# Altium integrated library ALTIUM-SMSI_SMT_STEEL_SPACER_M3_THREAD_INTERNAL-rev19a.IntLib: 149 symbols (part 1 of 2)
Pins are listed as number, name and electrical type; pins without a type are passive.

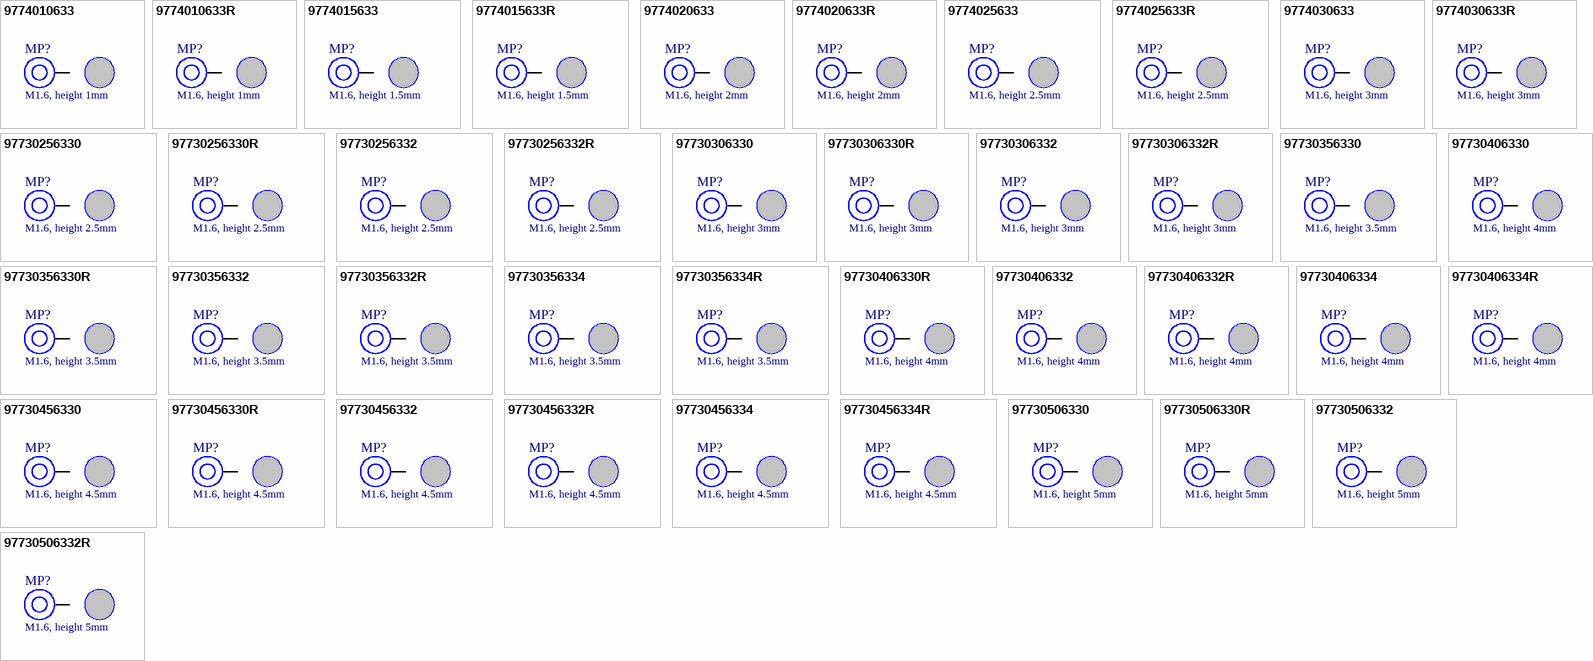
[diagram p0: symbols 9774010633 to 97730506332R]

## 9774010633
designator MP?, comment M1.6, height 1mm
SMT Steel Spacer with internal Thread M1.6 WA-SMSI, height 1mm; Part Number: 9774010633; Tightening Torque: 0.1 Nm; Solder Cream Thickness: 120 um; Surface: Tin; ComponentLink1Description: Manufacturer; ComponentLink1URL: http://www.we-online.de; ComponentLink2Description: Datasheet; ComponentLink2URL: https://katalog.we-online.de/em/datasheet/9774010633.pdf; Published Date: November 2018; Publisher: Wurth Elektronik; Operating Temperature: -55 to 150 degC; Packaging: Bulk; Material: Steel; Mounting Technology: SMT; Height: 1 mm; Thread: M1.6
footprint 9774010633
pins: 1

## 9774010633R
designator MP?, comment M1.6, height 1mm
SMT Steel Spacer with internal Thread M1.6 WA-SMSI, height 1mm; Part Number: 9774010633R; Tightening Torque: 0.1 Nm; Solder Cream Thickness: 120 um; Surface: Tin; ComponentLink1Description: Manufacturer; ComponentLink1URL: http://www.we-online.de; ComponentLink2Description: Datasheet; ComponentLink2URL: https://katalog.we-online.de/em/datasheet/9774010633R.pdf; Published Date: November 2018; Publisher: Wurth Elektronik; Operating Temperature: -55 to 150 degC; Packaging: Tape and Reel; Material: Steel; Mounting Technology: SMT; Height: 1 mm; Thread: M1.6
footprint 9774010633
pins: 1

## 9774015633
designator MP?, comment M1.6, height 1.5mm
SMT Steel Spacer with internal Thread M1.6 WA-SMSI, height 1.5mm; Part Number: 9774015633; Tightening Torque: 0.1 Nm; Solder Cream Thickness: 120 um; Surface: Tin; ComponentLink1Description: Manufacturer; ComponentLink1URL: http://www.we-online.de; ComponentLink2Description: Datasheet; ComponentLink2URL: https://katalog.we-online.de/em/datasheet/9774015633.pdf; Published Date: November 2018; Publisher: Wurth Elektronik; Operating Temperature: -55 to 150 degC; Packaging: Bulk; Material: Steel; Mounting Technology: SMT; Height: 1.5 mm; Thread: M1.6
footprint 9774015633
pins: 1

## 9774015633R
designator MP?, comment M1.6, height 1.5mm
SMT Steel Spacer with internal Thread M1.6 WA-SMSI, height 1.5mm; Part Number: 9774015633R; Tightening Torque: 0.1 Nm; Solder Cream Thickness: 120 um; Surface: Tin; ComponentLink1Description: Manufacturer; ComponentLink1URL: http://www.we-online.de; ComponentLink2Description: Datasheet; ComponentLink2URL: https://katalog.we-online.de/em/datasheet/9774015633R.pdf; Published Date: November 2018; Publisher: Wurth Elektronik; Operating Temperature: -55 to 150 degC; Packaging: Tape and Reel; Material: Steel; Mounting Technology: SMT; Height: 1.5 mm; Thread: M1.6
footprint 9774015633
pins: 1

## 9774020633
designator MP?, comment M1.6, height 2mm
SMT Steel Spacer with internal Thread M1.6 WA-SMSI, height 2mm; Part Number: 9774020633; Tightening Torque: 0.1 Nm; Solder Cream Thickness: 120 um; Surface: Tin; ComponentLink1Description: Manufacturer; ComponentLink1URL: http://www.we-online.de; ComponentLink2Description: Datasheet; ComponentLink2URL: https://katalog.we-online.de/em/datasheet/9774020633.pdf; Published Date: November 2018; Publisher: Wurth Elektronik; Operating Temperature: -55 to 150 degC; Packaging: Bulk; Material: Steel; Mounting Technology: SMT; Height: 2 mm; Thread: M1.6
footprint 9774020633
pins: 1

## 9774020633R
designator MP?, comment M1.6, height 2mm
SMT Steel Spacer with internal Thread M1.6 WA-SMSI, height 2mm; Part Number: 9774020633R; Tightening Torque: 0.1 Nm; Solder Cream Thickness: 120 um; Surface: Tin; ComponentLink1Description: Manufacturer; ComponentLink1URL: http://www.we-online.de; ComponentLink2Description: Datasheet; ComponentLink2URL: https://katalog.we-online.de/em/datasheet/9774020633R.pdf; Published Date: November 2018; Publisher: Wurth Elektronik; Operating Temperature: -55 to 150 degC; Packaging: Tape and Reel; Material: Steel; Mounting Technology: SMT; Height: 2 mm; Thread: M1.6
footprint 9774020633
pins: 1

## 9774025633
designator MP?, comment M1.6, height 2.5mm
SMT Steel Spacer with internal Thread M1.6 WA-SMSI, height 2.5mm; Part Number: 9774025633; Tightening Torque: 0.1 Nm; Solder Cream Thickness: 120 um; Surface: Tin; ComponentLink1Description: Manufacturer; ComponentLink1URL: http://www.we-online.de; ComponentLink2Description: Datasheet; ComponentLink2URL: https://katalog.we-online.de/em/datasheet/9774025633.pdf; Published Date: November 2018; Publisher: Wurth Elektronik; Operating Temperature: -55 to 150 degC; Packaging: Bulk; Material: Steel; Mounting Technology: SMT; Height: 2.5 mm; Thread: M1.6
footprint 9774025633
pins: 1

## 9774025633R
designator MP?, comment M1.6, height 2.5mm
SMT Steel Spacer with internal Thread M1.6 WA-SMSI, height 2.5mm; Part Number: 9774025633R; Tightening Torque: 0.1 Nm; Solder Cream Thickness: 120 um; Surface: Tin; ComponentLink1Description: Manufacturer; ComponentLink1URL: http://www.we-online.de; ComponentLink2Description: Datasheet; ComponentLink2URL: https://katalog.we-online.de/em/datasheet/9774025633R.pdf; Published Date: November 2018; Publisher: Wurth Elektronik; Operating Temperature: -55 to 150 degC; Packaging: Tape and Reel; Material: Steel; Mounting Technology: SMT; Height: 2.5 mm; Thread: M1.6
footprint 9774025633
pins: 1

## 9774030633
designator MP?, comment M1.6, height 3mm
SMT Steel Spacer with internal Thread M1.6 WA-SMSI, height 3mm; Part Number: 9774030633; Tightening Torque: 0.1 Nm; Solder Cream Thickness: 120 um; Surface: Tin; ComponentLink1Description: Manufacturer; ComponentLink1URL: http://www.we-online.de; ComponentLink2Description: Datasheet; ComponentLink2URL: https://katalog.we-online.de/em/datasheet/9774030633.pdf; Published Date: November 2018; Publisher: Wurth Elektronik; Operating Temperature: -55 to 150 degC; Packaging: Bulk; Material: Steel; Mounting Technology: SMT; Height: 3 mm; Thread: M1.6
footprint 9774030633
pins: 1

## 9774030633R
designator MP?, comment M1.6, height 3mm
SMT Steel Spacer with internal Thread M1.6 WA-SMSI, height 3mm; Part Number: 9774030633R; Tightening Torque: 0.1 Nm; Solder Cream Thickness: 120 um; Surface: Tin; ComponentLink1Description: Manufacturer; ComponentLink1URL: http://www.we-online.de; ComponentLink2Description: Datasheet; ComponentLink2URL: https://katalog.we-online.de/em/datasheet/9774030633R.pdf; Published Date: November 2018; Publisher: Wurth Elektronik; Operating Temperature: -55 to 150 degC; Packaging: Tape and Reel; Material: Steel; Mounting Technology: SMT; Height: 3 mm; Thread: M1.6
footprint 9774030633
pins: 1

## 97730256330
designator MP?, comment M1.6, height 2.5mm
SMT Steel Spacer with internal Thread M1.6 Bottom closed WA-SMSI, height 2.5mm; Part Number: 97730256330; Tightening Torque: 0.1 Nm; Solder Cream Thickness: 120 um; Surface: Tin; ComponentLink1Description: Manufacturer; ComponentLink1URL: http://www.we-online.de; ComponentLink2Description: Datasheet; ComponentLink2URL: https://katalog.we-online.de/em/datasheet/97730256330.pdf; Published Date: November 2018; Publisher: Wurth Elektronik; Operating Temperature: -55 to 150 degC; Packaging: Bulk; Material: Steel; Mounting Technology: SMT; Height: 2.5 mm; Thread: M1.6
footprint 97730256330
pins: 1

## 97730256330R
designator MP?, comment M1.6, height 2.5mm
SMT Steel Spacer with internal Thread M1.6 Bottom closed WA-SMSI, height 2.5mm; Part Number: 97730256330R; Tightening Torque: 0.1 Nm; Solder Cream Thickness: 120 um; Surface: Tin; ComponentLink1Description: Manufacturer; ComponentLink1URL: http://www.we-online.de; ComponentLink2Description: Datasheet; ComponentLink2URL: https://katalog.we-online.de/em/datasheet/97730256330R.pdf; Published Date: November 2018; Publisher: Wurth Elektronik; Operating Temperature: -55 to 150 degC; Packaging: Tape and Reel; Material: Steel; Mounting Technology: SMT; Height: 2.5 mm; Thread: M1.6
footprint 97730256330
pins: 1

## 97730256332
designator MP?, comment M1.6, height 2.5mm
SMT Steel Spacer with internal Thread M1.6 with Pin WA-SMSI, height 2.5mm; Part Number: 97730256332; Tightening Torque: 0.1 Nm; Solder Cream Thickness: 120 um; Surface: Tin; ComponentLink1Description: Manufacturer; ComponentLink1URL: http://www.we-online.de; ComponentLink2Description: Datasheet; ComponentLink2URL: https://katalog.we-online.de/em/datasheet/97730256332.pdf; Published Date: November 2018; Publisher: Wurth Elektronik; Operating Temperature: -55 to 150 degC; Packaging: Bulk; Material: Steel; Mounting Technology: SMT; Height: 2.5 mm; Thread: M1.6
footprint 97730256332
pins: 1

## 97730256332R
designator MP?, comment M1.6, height 2.5mm
SMT Steel Spacer with internal Thread M1.6 with Pin WA-SMSI, height 2.5mm; Part Number: 97730256332R; Tightening Torque: 0.1 Nm; Solder Cream Thickness: 120 um; Surface: Tin; ComponentLink1Description: Manufacturer; ComponentLink1URL: http://www.we-online.de; ComponentLink2Description: Datasheet; ComponentLink2URL: https://katalog.we-online.de/em/datasheet/97730256332R.pdf; Published Date: November 2018; Publisher: Wurth Elektronik; Operating Temperature: -55 to 150 degC; Packaging: Tape and Reel; Material: Steel; Mounting Technology: SMT; Height: 2.5 mm; Thread: M1.6
footprint 97730256332
pins: 1

## 97730306330
designator MP?, comment M1.6, height 3mm
SMT Steel Spacer with internal Thread M1.6 Bottom closed WA-SMSI, height 3mm; Part Number: 97730306330; Tightening Torque: 0.1 Nm; Solder Cream Thickness: 120 um; Surface: Tin; ComponentLink1Description: Manufacturer; ComponentLink1URL: http://www.we-online.de; ComponentLink2Description: Datasheet; ComponentLink2URL: https://katalog.we-online.de/em/datasheet/97730306330.pdf; Published Date: November 2018; Publisher: Wurth Elektronik; Operating Temperature: -55 to 150 degC; Packaging: Bulk; Material: Steel; Mounting Technology: SMT; Height: 3 mm; Thread: M1.6
footprint 97730306330
pins: 1

## 97730306330R
designator MP?, comment M1.6, height 3mm
SMT Steel Spacer with internal Thread M1.6 Bottom closed WA-SMSI, height 3mm; Part Number: 97730306330R; Tightening Torque: 0.1 Nm; Solder Cream Thickness: 120 um; Surface: Tin; ComponentLink1Description: Manufacturer; ComponentLink1URL: http://www.we-online.de; ComponentLink2Description: Datasheet; ComponentLink2URL: https://katalog.we-online.de/em/datasheet/97730306330R.pdf; Published Date: November 2018; Publisher: Wurth Elektronik; Operating Temperature: -55 to 150 degC; Packaging: Tape and Reel; Material: Steel; Mounting Technology: SMT; Height: 3 mm; Thread: M1.6
footprint 97730306330
pins: 1

## 97730306332
designator MP?, comment M1.6, height 3mm
SMT Steel Spacer with internal Thread M1.6 with Pin WA-SMSI, height 3mm; Part Number: 97730306332; Tightening Torque: 0.1 Nm; Solder Cream Thickness: 120 um; Surface: Tin; ComponentLink1Description: Manufacturer; ComponentLink1URL: http://www.we-online.de; ComponentLink2Description: Datasheet; ComponentLink2URL: https://katalog.we-online.de/em/datasheet/97730306332.pdf; Published Date: November 2018; Publisher: Wurth Elektronik; Operating Temperature: -55 to 150 degC; Packaging: Bulk; Material: Steel; Mounting Technology: SMT; Height: 3 mm; Thread: M1.6
footprint 97730306332
pins: 1

## 97730306332R
designator MP?, comment M1.6, height 3mm
SMT Steel Spacer with internal Thread M1.6 with Pin WA-SMSI, height 3mm; Part Number: 97730306332R; Tightening Torque: 0.1 Nm; Solder Cream Thickness: 120 um; Surface: Tin; ComponentLink1Description: Manufacturer; ComponentLink1URL: http://www.we-online.de; ComponentLink2Description: Datasheet; ComponentLink2URL: https://katalog.we-online.de/em/datasheet/97730306332R.pdf; Published Date: November 2018; Publisher: Wurth Elektronik; Operating Temperature: -55 to 150 degC; Packaging: Tape and Reel; Material: Steel; Mounting Technology: SMT; Height: 3 mm; Thread: M1.6
footprint 97730306332
pins: 1

## 97730356330
designator MP?, comment M1.6, height 3.5mm
SMT Steel Spacer with internal Thread M1.6 Bottom closed WA-SMSI, height 3.5mm; Part Number: 97730356330; Tightening Torque: 0.1 Nm; Solder Cream Thickness: 120 um; Surface: Tin; ComponentLink1Description: Manufacturer; ComponentLink1URL: http://www.we-online.de; ComponentLink2Description: Datasheet; ComponentLink2URL: https://katalog.we-online.de/em/datasheet/97730356330.pdf; Published Date: November 2018; Publisher: Wurth Elektronik; Operating Temperature: -55 to 150 degC; Packaging: Bulk; Material: Steel; Mounting Technology: SMT; Height: 3.5 mm; Thread: M1.6
footprint 97730356330
pins: 1

## 97730356330R
designator MP?, comment M1.6, height 3.5mm
SMT Steel Spacer with internal Thread M1.6 Bottom closed WA-SMSI, height 3.5mm; Part Number: 97730356330R; Tightening Torque: 0.1 Nm; Solder Cream Thickness: 120 um; Surface: Tin; ComponentLink1Description: Manufacturer; ComponentLink1URL: http://www.we-online.de; ComponentLink2Description: Datasheet; ComponentLink2URL: https://katalog.we-online.de/em/datasheet/97730356330R.pdf; Published Date: November 2018; Publisher: Wurth Elektronik; Operating Temperature: -55 to 150 degC; Packaging: Tape and Reel; Material: Steel; Mounting Technology: SMT; Height: 3.5 mm; Thread: M1.6
footprint 97730356330
pins: 1

## 97730356332
designator MP?, comment M1.6, height 3.5mm
SMT Steel Spacer with internal Thread M1.6 with Pin WA-SMSI, height 3.5mm; Part Number: 97730356332; Tightening Torque: 0.1 Nm; Solder Cream Thickness: 120 um; Surface: Tin; ComponentLink1Description: Manufacturer; ComponentLink1URL: http://www.we-online.de; ComponentLink2Description: Datasheet; ComponentLink2URL: https://katalog.we-online.de/em/datasheet/97730356332.pdf; Published Date: November 2018; Publisher: Wurth Elektronik; Operating Temperature: -55 to 150 degC; Packaging: Bulk; Material: Steel; Mounting Technology: SMT; Height: 3.5 mm; Thread: M1.6
footprint 97730356332
pins: 1

## 97730356332R
designator MP?, comment M1.6, height 3.5mm
SMT Steel Spacer with internal Thread M1.6 with Pin WA-SMSI, height 3.5mm; Part Number: 97730356332R; Tightening Torque: 0.1 Nm; Solder Cream Thickness: 120 um; Surface: Tin; ComponentLink1Description: Manufacturer; ComponentLink1URL: http://www.we-online.de; ComponentLink2Description: Datasheet; ComponentLink2URL: https://katalog.we-online.de/em/datasheet/97730356332R.pdf; Published Date: November 2018; Publisher: Wurth Elektronik; Operating Temperature: -55 to 150 degC; Packaging: Tape and Reel; Material: Steel; Mounting Technology: SMT; Height: 3.5 mm; Thread: M1.6
footprint 97730356332
pins: 1

## 97730356334
designator MP?, comment M1.6, height 3.5mm
SMT Steel Spacer with internal Thread M1.6 WA-SMSI, height 3.5mm; Part Number: 97730356334; Tightening Torque: 0.1 Nm; Solder Cream Thickness: 120 um; Surface: Tin; ComponentLink1Description: Manufacturer; ComponentLink1URL: http://www.we-online.de; ComponentLink2Description: Datasheet; ComponentLink2URL: https://katalog.we-online.de/em/datasheet/97730356334.pdf; Published Date: November 2018; Publisher: Wurth Elektronik; Operating Temperature: -55 to 150 degC; Packaging: Bulk; Material: Steel; Mounting Technology: SMT; Height: 3.5 mm; Thread: M1.6
footprint 97730356334
pins: 1

## 97730356334R
designator MP?, comment M1.6, height 3.5mm
SMT Steel Spacer with internal Thread M1.6 WA-SMSI, height 3.5mm; Part Number: 97730356334R; Tightening Torque: 0.1 Nm; Solder Cream Thickness: 120 um; Surface: Tin; ComponentLink1Description: Manufacturer; ComponentLink1URL: http://www.we-online.de; ComponentLink2Description: Datasheet; ComponentLink2URL: https://katalog.we-online.de/em/datasheet/97730356334R.pdf; Published Date: November 2018; Publisher: Wurth Elektronik; Operating Temperature: -55 to 150 degC; Packaging: Tape and Reel; Material: Steel; Mounting Technology: SMT; Height: 3.5 mm; Thread: M1.6
footprint 97730356334
pins: 1

## 97730406330
designator MP?, comment M1.6, height 4mm
SMT Steel Spacer with internal Thread M1.6 Bottom closed WA-SMSI, height 4mm; Part Number: 97730406330; Tightening Torque: 0.1 Nm; Solder Cream Thickness: 120 um; Surface: Tin; ComponentLink1Description: Manufacturer; ComponentLink1URL: http://www.we-online.de; ComponentLink2Description: Datasheet; ComponentLink2URL: https://katalog.we-online.de/em/datasheet/97730406330.pdf; Published Date: November 2018; Publisher: Wurth Elektronik; Operating Temperature: -55 to 150 degC; Packaging: Bulk; Material: Steel; Mounting Technology: SMT; Height: 4 mm; Thread: M1.6
footprint 97730406330
pins: 1

## 97730406330R
designator MP?, comment M1.6, height 4mm
SMT Steel Spacer with internal Thread M1.6 Bottom closed WA-SMSI, height 4mm; Part Number: 97730406330R; Tightening Torque: 0.1 Nm; Solder Cream Thickness: 120 um; Surface: Tin; ComponentLink1Description: Manufacturer; ComponentLink1URL: http://www.we-online.de; ComponentLink2Description: Datasheet; ComponentLink2URL: https://katalog.we-online.de/em/datasheet/97730406330R.pdf; Published Date: November 2018; Publisher: Wurth Elektronik; Operating Temperature: -55 to 150 degC; Packaging: Tape and Reel; Material: Steel; Mounting Technology: SMT; Height: 4 mm; Thread: M1.6
footprint 97730406330
pins: 1

## 97730406332
designator MP?, comment M1.6, height 4mm
SMT Steel Spacer with internal Thread M1.6 with Pin WA-SMSI, height 4mm; Part Number: 97730406332; Tightening Torque: 0.1 Nm; Solder Cream Thickness: 120 um; Surface: Tin; ComponentLink1Description: Manufacturer; ComponentLink1URL: http://www.we-online.de; ComponentLink2Description: Datasheet; ComponentLink2URL: https://katalog.we-online.de/em/datasheet/97730406332.pdf; Published Date: November 2018; Publisher: Wurth Elektronik; Operating Temperature: -55 to 150 degC; Packaging: Bulk; Material: Steel; Mounting Technology: SMT; Height: 4 mm; Thread: M1.6
footprint 97730406332
pins: 1

## 97730406332R
designator MP?, comment M1.6, height 4mm
SMT Steel Spacer with internal Thread M1.6 with Pin WA-SMSI, height 4mm; Part Number: 97730406332R; Tightening Torque: 0.1 Nm; Solder Cream Thickness: 120 um; Surface: Tin; ComponentLink1Description: Manufacturer; ComponentLink1URL: http://www.we-online.de; ComponentLink2Description: Datasheet; ComponentLink2URL: https://katalog.we-online.de/em/datasheet/97730406332R.pdf; Published Date: November 2018; Publisher: Wurth Elektronik; Operating Temperature: -55 to 150 degC; Packaging: Tape and Reel; Material: Steel; Mounting Technology: SMT; Height: 4 mm; Thread: M1.6
footprint 97730406332
pins: 1

## 97730406334
designator MP?, comment M1.6, height 4mm
SMT Steel Spacer with internal Thread M1.6 WA-SMSI, height 4mm; Part Number: 97730406334; Tightening Torque: 0.1 Nm; Solder Cream Thickness: 120 um; Surface: Tin; ComponentLink1Description: Manufacturer; ComponentLink1URL: http://www.we-online.de; ComponentLink2Description: Datasheet; ComponentLink2URL: https://katalog.we-online.de/em/datasheet/97730406334.pdf; Published Date: November 2018; Publisher: Wurth Elektronik; Operating Temperature: -55 to 150 degC; Packaging: Bulk; Material: Steel; Mounting Technology: SMT; Height: 4 mm; Thread: M1.6
footprint 97730406334
pins: 1

## 97730406334R
designator MP?, comment M1.6, height 4mm
SMT Steel Spacer with internal Thread M1.6 WA-SMSI, height 4mm; Part Number: 97730406334R; Tightening Torque: 0.1 Nm; Solder Cream Thickness: 120 um; Surface: Tin; ComponentLink1Description: Manufacturer; ComponentLink1URL: http://www.we-online.de; ComponentLink2Description: Datasheet; ComponentLink2URL: https://katalog.we-online.de/em/datasheet/97730406334R.pdf; Published Date: November 2018; Publisher: Wurth Elektronik; Operating Temperature: -55 to 150 degC; Packaging: Tape and Reel; Material: Steel; Mounting Technology: SMT; Height: 4 mm; Thread: M1.6
footprint 97730406334
pins: 1

## 97730456330
designator MP?, comment M1.6, height 4.5mm
SMT Steel Spacer with internal Thread M1.6 Bottom closed WA-SMSI, height 4.5mm; Part Number: 97730456330; Tightening Torque: 0.1 Nm; Solder Cream Thickness: 120 um; Surface: Tin; ComponentLink1Description: Manufacturer; ComponentLink1URL: http://www.we-online.de; ComponentLink2Description: Datasheet; ComponentLink2URL: https://katalog.we-online.de/em/datasheet/97730456330.pdf; Published Date: November 2018; Publisher: Wurth Elektronik; Operating Temperature: -55 to 150 degC; Packaging: Bulk; Material: Steel; Mounting Technology: SMT; Height: 4.5 mm; Thread: M1.6
footprint 97730456330
pins: 1

## 97730456330R
designator MP?, comment M1.6, height 4.5mm
SMT Steel Spacer with internal Thread M1.6 Bottom closed WA-SMSI, height 4.5mm; Part Number: 97730456330R; Tightening Torque: 0.1 Nm; Solder Cream Thickness: 120 um; Surface: Tin; ComponentLink1Description: Manufacturer; ComponentLink1URL: http://www.we-online.de; ComponentLink2Description: Datasheet; ComponentLink2URL: https://katalog.we-online.de/em/datasheet/97730456330R.pdf; Published Date: November 2018; Publisher: Wurth Elektronik; Operating Temperature: -55 to 150 degC; Packaging: Tape and Reel; Material: Steel; Mounting Technology: SMT; Height: 4.5 mm; Thread: M1.6
footprint 97730456330
pins: 1

## 97730456332
designator MP?, comment M1.6, height 4.5mm
SMT Steel Spacer with internal Thread M1.6 with Pin WA-SMSI, height 4.5mm; Part Number: 97730456332; Tightening Torque: 0.1 Nm; Solder Cream Thickness: 120 um; Surface: Tin; ComponentLink1Description: Manufacturer; ComponentLink1URL: http://www.we-online.de; ComponentLink2Description: Datasheet; ComponentLink2URL: https://katalog.we-online.de/em/datasheet/97730456332.pdf; Published Date: November 2018; Publisher: Wurth Elektronik; Operating Temperature: -55 to 150 degC; Packaging: Bulk; Material: Steel; Mounting Technology: SMT; Height: 4.5 mm; Thread: M1.6
footprint 97730456332
pins: 1

## 97730456332R
designator MP?, comment M1.6, height 4.5mm
SMT Steel Spacer with internal Thread M1.6 with Pin WA-SMSI, height 4.5mm; Part Number: 97730456332R; Tightening Torque: 0.1 Nm; Solder Cream Thickness: 120 um; Surface: Tin; ComponentLink1Description: Manufacturer; ComponentLink1URL: http://www.we-online.de; ComponentLink2Description: Datasheet; ComponentLink2URL: https://katalog.we-online.de/em/datasheet/97730456332R.pdf; Published Date: November 2018; Publisher: Wurth Elektronik; Operating Temperature: -55 to 150 degC; Packaging: Tape and Reel; Material: Steel; Mounting Technology: SMT; Height: 4.5 mm; Thread: M1.6
footprint 97730456332
pins: 1

## 97730456334
designator MP?, comment M1.6, height 4.5mm
SMT Steel Spacer with internal Thread M1.6 WA-SMSI, height 4.5mm; Part Number: 97730456334; Tightening Torque: 0.1 Nm; Solder Cream Thickness: 120 um; Surface: Tin; ComponentLink1Description: Manufacturer; ComponentLink1URL: http://www.we-online.de; ComponentLink2Description: Datasheet; ComponentLink2URL: https://katalog.we-online.de/em/datasheet/97730456334.pdf; Published Date: November 2018; Publisher: Wurth Elektronik; Operating Temperature: -55 to 150 degC; Packaging: Bulk; Material: Steel; Mounting Technology: SMT; Height: 4.5 mm; Thread: M1.6
footprint 97730456334
pins: 1

## 97730456334R
designator MP?, comment M1.6, height 4.5mm
SMT Steel Spacer with internal Thread M1.6 WA-SMSI, height 4.5mm; Part Number: 97730456334R; Tightening Torque: 0.1 Nm; Solder Cream Thickness: 120 um; Surface: Tin; ComponentLink1Description: Manufacturer; ComponentLink1URL: http://www.we-online.de; ComponentLink2Description: Datasheet; ComponentLink2URL: https://katalog.we-online.de/em/datasheet/97730456334R.pdf; Published Date: November 2018; Publisher: Wurth Elektronik; Operating Temperature: -55 to 150 degC; Packaging: Tape and Reel; Material: Steel; Mounting Technology: SMT; Height: 4.5 mm; Thread: M1.6
footprint 97730456334
pins: 1

## 97730506330
designator MP?, comment M1.6, height 5mm
SMT Steel Spacer with internal Thread M1.6 Bottom closed WA-SMSI, height 5mm; Part Number: 97730506330; Tightening Torque: 0.1 Nm; Solder Cream Thickness: 120 um; Surface: Tin; ComponentLink1Description: Manufacturer; ComponentLink1URL: http://www.we-online.de; ComponentLink2Description: Datasheet; ComponentLink2URL: https://katalog.we-online.de/em/datasheet/97730506330.pdf; Published Date: November 2018; Publisher: Wurth Elektronik; Operating Temperature: -55 to 150 degC; Packaging: Bulk; Material: Steel; Mounting Technology: SMT; Height: 5 mm; Thread: M1.6
footprint 97730506330
pins: 1

## 97730506330R
designator MP?, comment M1.6, height 5mm
SMT Steel Spacer with internal Thread M1.6 Bottom closed WA-SMSI, height 5mm; Part Number: 97730506330R; Tightening Torque: 0.1 Nm; Solder Cream Thickness: 120 um; Surface: Tin; ComponentLink1Description: Manufacturer; ComponentLink1URL: http://www.we-online.de; ComponentLink2Description: Datasheet; ComponentLink2URL: https://katalog.we-online.de/em/datasheet/97730506330R.pdf; Published Date: November 2018; Publisher: Wurth Elektronik; Operating Temperature: -55 to 150 degC; Packaging: Tape and Reel; Material: Steel; Mounting Technology: SMT; Height: 5 mm; Thread: M1.6
footprint 97730506330
pins: 1

## 97730506332
designator MP?, comment M1.6, height 5mm
SMT Steel Spacer with internal Thread M1.6 with Pin WA-SMSI, height 5mm; Part Number: 97730506332; Tightening Torque: 0.1 Nm; Solder Cream Thickness: 120 um; Surface: Tin; ComponentLink1Description: Manufacturer; ComponentLink1URL: http://www.we-online.de; ComponentLink2Description: Datasheet; ComponentLink2URL: https://katalog.we-online.de/em/datasheet/97730506332.pdf; Published Date: November 2018; Publisher: Wurth Elektronik; Operating Temperature: -55 to 150 degC; Packaging: Bulk; Material: Steel; Mounting Technology: SMT; Height: 5 mm; Thread: M1.6
footprint 97730506332
pins: 1

## 97730506332R
designator MP?, comment M1.6, height 5mm
SMT Steel Spacer with internal Thread M1.6 with Pin WA-SMSI, height 5mm; Part Number: 97730506332R; Tightening Torque: 0.1 Nm; Solder Cream Thickness: 120 um; Surface: Tin; ComponentLink1Description: Manufacturer; ComponentLink1URL: http://www.we-online.de; ComponentLink2Description: Datasheet; ComponentLink2URL: https://katalog.we-online.de/em/datasheet/97730506332R.pdf; Published Date: November 2018; Publisher: Wurth Elektronik; Operating Temperature: -55 to 150 degC; Packaging: Tape and Reel; Material: Steel; Mounting Technology: SMT; Height: 5 mm; Thread: M1.6
footprint 97730506332
pins: 1

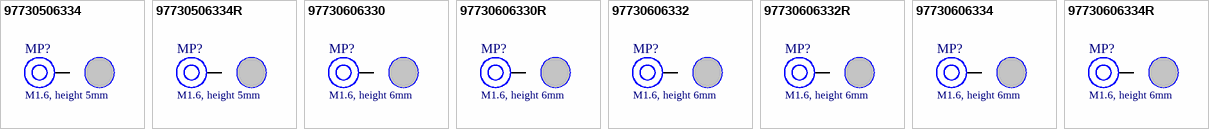
[diagram p1: symbols 97730506334 to 97730606334R]

## 97730506334
designator MP?, comment M1.6, height 5mm
SMT Steel Spacer with internal Thread M1.6 WA-SMSI, height 5mm; Part Number: 97730506334; Tightening Torque: 0.1 Nm; Solder Cream Thickness: 120 um; Surface: Tin; ComponentLink1Description: Manufacturer; ComponentLink1URL: http://www.we-online.de; ComponentLink2Description: Datasheet; ComponentLink2URL: https://katalog.we-online.de/em/datasheet/97730506334.pdf; Published Date: November 2018; Publisher: Wurth Elektronik; Operating Temperature: -55 to 150 degC; Packaging: Bulk; Material: Steel; Mounting Technology: SMT; Height: 5 mm; Thread: M1.6
footprint 97730506334
pins: 1

## 97730506334R
designator MP?, comment M1.6, height 5mm
SMT Steel Spacer with internal Thread M1.6 WA-SMSI, height 5mm; Part Number: 97730506334R; Tightening Torque: 0.1 Nm; Solder Cream Thickness: 120 um; Surface: Tin; ComponentLink1Description: Manufacturer; ComponentLink1URL: http://www.we-online.de; ComponentLink2Description: Datasheet; ComponentLink2URL: https://katalog.we-online.de/em/datasheet/97730506334R.pdf; Published Date: November 2018; Publisher: Wurth Elektronik; Operating Temperature: -55 to 150 degC; Packaging: Tape and Reel; Material: Steel; Mounting Technology: SMT; Height: 5 mm; Thread: M1.6
footprint 97730506334
pins: 1

## 97730606330
designator MP?, comment M1.6, height 6mm
SMT Steel Spacer with internal Thread M1.6 Bottom closed WA-SMSI, height 6mm; Part Number: 97730606330; Tightening Torque: 0.1 Nm; Solder Cream Thickness: 120 um; Surface: Tin; ComponentLink1Description: Manufacturer; ComponentLink1URL: http://www.we-online.de; ComponentLink2Description: Datasheet; ComponentLink2URL: https://katalog.we-online.de/em/datasheet/97730606330.pdf; Published Date: November 2018; Publisher: Wurth Elektronik; Operating Temperature: -55 to 150 degC; Packaging: Bulk; Material: Steel; Mounting Technology: SMT; Height: 6 mm; Thread: M1.6
footprint 97730606330
pins: 1

## 97730606330R
designator MP?, comment M1.6, height 6mm
SMT Steel Spacer with internal Thread M1.6 Bottom closed WA-SMSI, height 6mm; Part Number: 97730606330R; Tightening Torque: 0.1 Nm; Solder Cream Thickness: 120 um; Surface: Tin; ComponentLink1Description: Manufacturer; ComponentLink1URL: http://www.we-online.de; ComponentLink2Description: Datasheet; ComponentLink2URL: https://katalog.we-online.de/em/datasheet/97730606330R.pdf; Published Date: November 2018; Publisher: Wurth Elektronik; Operating Temperature: -55 to 150 degC; Packaging: Tape and Reel; Material: Steel; Mounting Technology: SMT; Height: 6 mm; Thread: M1.6
footprint 97730606330
pins: 1

## 97730606332
designator MP?, comment M1.6, height 6mm
SMT Steel Spacer with internal Thread M1.6 with Pin WA-SMSI, height 6mm; Part Number: 97730606332; Tightening Torque: 0.1 Nm; Solder Cream Thickness: 120 um; Surface: Tin; ComponentLink1Description: Manufacturer; ComponentLink1URL: http://www.we-online.de; ComponentLink2Description: Datasheet; ComponentLink2URL: https://katalog.we-online.de/em/datasheet/97730606332.pdf; Published Date: November 2018; Publisher: Wurth Elektronik; Operating Temperature: -55 to 150 degC; Packaging: Bulk; Material: Steel; Mounting Technology: SMT; Height: 6 mm; Thread: M1.6
footprint 97730606332
pins: 1

## 97730606332R
designator MP?, comment M1.6, height 6mm
SMT Steel Spacer with internal Thread M1.6 with Pin WA-SMSI, height 6mm; Part Number: 97730606332R; Tightening Torque: 0.1 Nm; Solder Cream Thickness: 120 um; Surface: Tin; ComponentLink1Description: Manufacturer; ComponentLink1URL: http://www.we-online.de; ComponentLink2Description: Datasheet; ComponentLink2URL: https://katalog.we-online.de/em/datasheet/97730606332R.pdf; Published Date: November 2018; Publisher: Wurth Elektronik; Operating Temperature: -55 to 150 degC; Packaging: Tape and Reel; Material: Steel; Mounting Technology: SMT; Height: 6 mm; Thread: M1.6
footprint 97730606332
pins: 1

## 97730606334
designator MP?, comment M1.6, height 6mm
SMT Steel Spacer with internal Thread M1.6 WA-SMSI, height 6mm; Part Number: 97730606334; Tightening Torque: 0.1 Nm; Solder Cream Thickness: 120 um; Surface: Tin; ComponentLink1Description: Manufacturer; ComponentLink1URL: http://www.we-online.de; ComponentLink2Description: Datasheet; ComponentLink2URL: https://katalog.we-online.de/em/datasheet/97730606334.pdf; Published Date: November 2018; Publisher: Wurth Elektronik; Operating Temperature: -55 to 150 degC; Packaging: Bulk; Material: Steel; Mounting Technology: SMT; Height: 6 mm; Thread: M1.6
footprint 97730606334
pins: 1

## 97730606334R
designator MP?, comment M1.6, height 6mm
SMT Steel Spacer with internal Thread M1.6 WA-SMSI, height 6mm; Part Number: 97730606334R; Tightening Torque: 0.1 Nm; Solder Cream Thickness: 120 um; Surface: Tin; ComponentLink1Description: Manufacturer; ComponentLink1URL: http://www.we-online.de; ComponentLink2Description: Datasheet; ComponentLink2URL: https://katalog.we-online.de/em/datasheet/97730606334R.pdf; Published Date: November 2018; Publisher: Wurth Elektronik; Operating Temperature: -55 to 150 degC; Packaging: Tape and Reel; Material: Steel; Mounting Technology: SMT; Height: 6 mm; Thread: M1.6
footprint 97730606334
pins: 1


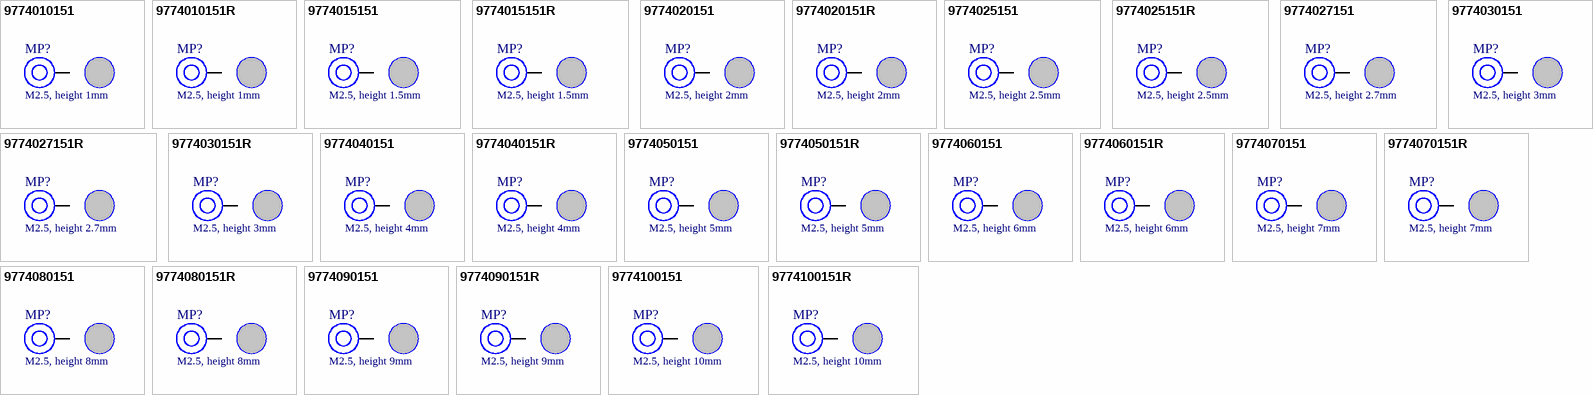
[diagram p2: symbols 9774010151 to 9774100151R]

## 9774010151
designator MP?, comment M2.5, height 1mm
SMT Steel Spacer with internal Thread M2.5 WA-SMSI, height 1mm; Part Number: 9774010151; Tightening Torque: 0.35 Nm; Solder Cream Thickness: 150 um; Surface: Tin; ComponentLink1Description: Manufacturer; ComponentLink1URL: http://www.we-online.de; ComponentLink2Description: Datasheet; ComponentLink2URL: https://katalog.we-online.de/em/datasheet/9774010151.pdf; Published Date: November 2018; Publisher: Wurth Elektronik; Operating Temperature: -55 to 150 degC; Packaging: Bulk; Material: Steel; Mounting Technology: SMT; Height: 1 mm; Thread: M2.5
footprint 9774010151
pins: 1

## 9774010151R
designator MP?, comment M2.5, height 1mm
SMT Steel Spacer with internal Thread M2.5 WA-SMSI, height 1mm; Part Number: 9774010151R; Tightening Torque: 0.35 Nm; Solder Cream Thickness: 150 um; Surface: Tin; ComponentLink1Description: Manufacturer; ComponentLink1URL: http://www.we-online.de; ComponentLink2Description: Datasheet; ComponentLink2URL: https://katalog.we-online.de/em/datasheet/9774010151R.pdf; Published Date: November 2018; Publisher: Wurth Elektronik; Operating Temperature: -55 to 150 degC; Packaging: Tape and Reel; Material: Steel; Mounting Technology: SMT; Height: 1 mm; Thread: M2.5
footprint 9774010151
pins: 1

## 9774015151
designator MP?, comment M2.5, height 1.5mm
SMT Steel Spacer with internal Thread M2.5 WA-SMSI, height 1.5mm; Part Number: 9774015151; Tightening Torque: 0.35 Nm; Solder Cream Thickness: 150 um; Surface: Tin; ComponentLink1Description: Manufacturer; ComponentLink1URL: http://www.we-online.de; ComponentLink2Description: Datasheet; ComponentLink2URL: https://katalog.we-online.de/em/datasheet/9774015151.pdf; Published Date: November 2018; Publisher: Wurth Elektronik; Operating Temperature: -55 to 150 degC; Packaging: Bulk; Material: Steel; Mounting Technology: SMT; Height: 1.5 mm; Thread: M2.5
footprint 9774015151
pins: 1

## 9774015151R
designator MP?, comment M2.5, height 1.5mm
SMT Steel Spacer with internal Thread M2.5 WA-SMSI, height 1.5mm; Part Number: 9774015151R; Tightening Torque: 0.35 Nm; Solder Cream Thickness: 150 um; Surface: Tin; ComponentLink1Description: Manufacturer; ComponentLink1URL: http://www.we-online.de; ComponentLink2Description: Datasheet; ComponentLink2URL: https://katalog.we-online.de/em/datasheet/9774015151R.pdf; Published Date: November 2018; Publisher: Wurth Elektronik; Operating Temperature: -55 to 150 degC; Packaging: Tape and Reel; Material: Steel; Mounting Technology: SMT; Height: 1.5 mm; Thread: M2.5
footprint 9774015151
pins: 1

## 9774020151
designator MP?, comment M2.5, height 2mm
SMT Steel Spacer with internal Thread M2.5 WA-SMSI, height 2mm; Part Number: 9774020151; Tightening Torque: 0.35 Nm; Solder Cream Thickness: 150 um; Surface: Tin; ComponentLink1Description: Manufacturer; ComponentLink1URL: http://www.we-online.de; ComponentLink2Description: Datasheet; ComponentLink2URL: https://katalog.we-online.de/em/datasheet/9774020151.pdf; Published Date: November 2018; Publisher: Wurth Elektronik; Operating Temperature: -55 to 150 degC; Packaging: Bulk; Material: Steel; Mounting Technology: SMT; Height: 2 mm; Thread: M2.5
footprint 9774020151
pins: 1

## 9774020151R
designator MP?, comment M2.5, height 2mm
SMT Steel Spacer with internal Thread M2.5 WA-SMSI, height 2mm; Part Number: 9774020151R; Tightening Torque: 0.35 Nm; Solder Cream Thickness: 150 um; Surface: Tin; ComponentLink1Description: Manufacturer; ComponentLink1URL: http://www.we-online.de; ComponentLink2Description: Datasheet; ComponentLink2URL: https://katalog.we-online.de/em/datasheet/9774020151R.pdf; Published Date: November 2018; Publisher: Wurth Elektronik; Operating Temperature: -55 to 150 degC; Packaging: Tape and Reel; Material: Steel; Mounting Technology: SMT; Height: 2 mm; Thread: M2.5
footprint 9774020151
pins: 1

## 9774025151
designator MP?, comment M2.5, height 2.5mm
SMT Steel Spacer with internal Thread M2.5 WA-SMSI, height 2.5mm; Part Number: 9774025151; Tightening Torque: 0.35 Nm; Solder Cream Thickness: 150 um; Surface: Tin; ComponentLink1Description: Manufacturer; ComponentLink1URL: http://www.we-online.de; ComponentLink2Description: Datasheet; ComponentLink2URL: https://katalog.we-online.de/em/datasheet/9774025151.pdf; Published Date: November 2018; Publisher: Wurth Elektronik; Operating Temperature: -55 to 150 degC; Packaging: Bulk; Material: Steel; Mounting Technology: SMT; Height: 2.5 mm; Thread: M2.5
footprint 9774025151
pins: 1

## 9774025151R
designator MP?, comment M2.5, height 2.5mm
SMT Steel Spacer with internal Thread M2.5 WA-SMSI, height 2.5mm; Part Number: 9774025151R; Tightening Torque: 0.35 Nm; Solder Cream Thickness: 150 um; Surface: Tin; ComponentLink1Description: Manufacturer; ComponentLink1URL: http://www.we-online.de; ComponentLink2Description: Datasheet; ComponentLink2URL: https://katalog.we-online.de/em/datasheet/9774025151R.pdf; Published Date: November 2018; Publisher: Wurth Elektronik; Operating Temperature: -55 to 150 degC; Packaging: Tape and Reel; Material: Steel; Mounting Technology: SMT; Height: 2.5 mm; Thread: M2.5
footprint 9774025151
pins: 1

## 9774027151
designator MP?, comment M2.5, height 2.7mm
SMT Steel Spacer with internal Thread M2.5 WA-SMSI, height 2.7mm; Part Number: 9774027151; Tightening Torque: 0.35 Nm; Solder Cream Thickness: 150 um; Surface: Tin; ComponentLink1Description: Manufacturer; ComponentLink1URL: http://www.we-online.de; ComponentLink2Description: Datasheet; ComponentLink2URL: https://katalog.we-online.de/em/datasheet/9774027151.pdf; Published Date: November 2018; Publisher: Wurth Elektronik; Operating Temperature: -55 to 150 degC; Packaging: Bulk; Material: Steel; Mounting Technology: SMT; Height: 2.7 mm; Thread: M2.5
footprint 9774027151
pins: 1

## 9774027151R
designator MP?, comment M2.5, height 2.7mm
SMT Steel Spacer with internal Thread M2.5 WA-SMSI, height 2.7mm; Part Number: 9774027151R; Tightening Torque: 0.35 Nm; Solder Cream Thickness: 150 um; Surface: Tin; ComponentLink1Description: Manufacturer; ComponentLink1URL: http://www.we-online.de; ComponentLink2Description: Datasheet; ComponentLink2URL: https://katalog.we-online.de/em/datasheet/9774027151R.pdf; Published Date: November 2018; Publisher: Wurth Elektronik; Operating Temperature: -55 to 150 degC; Packaging: Tape and Reel; Material: Steel; Mounting Technology: SMT; Height: 2.7 mm; Thread: M2.5
footprint 9774027151
pins: 1

## 9774030151
designator MP?, comment M2.5, height 3mm
SMT Steel Spacer with internal Thread M2.5 WA-SMSI, height 3mm; Part Number: 9774030151; Tightening Torque: 0.35 Nm; Solder Cream Thickness: 150 um; Surface: Tin; ComponentLink1Description: Manufacturer; ComponentLink1URL: http://www.we-online.de; ComponentLink2Description: Datasheet; ComponentLink2URL: https://katalog.we-online.de/em/datasheet/9774030151.pdf; Published Date: November 2018; Publisher: Wurth Elektronik; Operating Temperature: -55 to 150 degC; Packaging: Bulk; Material: Steel; Mounting Technology: SMT; Height: 3 mm; Thread: M2.5
footprint 9774030151
pins: 1

## 9774030151R
designator MP?, comment M2.5, height 3mm
SMT Steel Spacer with internal Thread M2.5 WA-SMSI, height 3mm; Part Number: 9774030151R; Tightening Torque: 0.35 Nm; Solder Cream Thickness: 150 um; Surface: Tin; ComponentLink1Description: Manufacturer; ComponentLink1URL: http://www.we-online.de; ComponentLink2Description: Datasheet; ComponentLink2URL: https://katalog.we-online.de/em/datasheet/9774030151R.pdf; Published Date: November 2018; Publisher: Wurth Elektronik; Operating Temperature: -55 to 150 degC; Packaging: Tape and Reel; Material: Steel; Mounting Technology: SMT; Height: 3 mm; Thread: M2.5
footprint 9774030151
pins: 1

## 9774040151
designator MP?, comment M2.5, height 4mm
SMT Steel Spacer with internal Thread M2.5 WA-SMSI, height 4mm; Part Number: 9774040151; Tightening Torque: 0.35 Nm; Solder Cream Thickness: 150 um; Surface: Tin; ComponentLink1Description: Manufacturer; ComponentLink1URL: http://www.we-online.de; ComponentLink2Description: Datasheet; ComponentLink2URL: https://katalog.we-online.de/em/datasheet/9774040151.pdf; Published Date: November 2018; Publisher: Wurth Elektronik; Operating Temperature: -55 to 150 degC; Packaging: Bulk; Material: Steel; Mounting Technology: SMT; Height: 4 mm; Thread: M2.5
footprint 9774040151
pins: 1

## 9774040151R
designator MP?, comment M2.5, height 4mm
SMT Steel Spacer with internal Thread M2.5 WA-SMSI, height 4mm; Part Number: 9774040151R; Tightening Torque: 0.35 Nm; Solder Cream Thickness: 150 um; Surface: Tin; ComponentLink1Description: Manufacturer; ComponentLink1URL: http://www.we-online.de; ComponentLink2Description: Datasheet; ComponentLink2URL: https://katalog.we-online.de/em/datasheet/9774040151R.pdf; Published Date: November 2018; Publisher: Wurth Elektronik; Operating Temperature: -55 to 150 degC; Packaging: Tape and Reel; Material: Steel; Mounting Technology: SMT; Height: 4 mm; Thread: M2.5
footprint 9774040151
pins: 1

## 9774050151
designator MP?, comment M2.5, height 5mm
SMT Steel Spacer with internal Thread M2.5 WA-SMSI, height 5mm; Part Number: 9774050151; Tightening Torque: 0.35 Nm; Solder Cream Thickness: 150 um; Surface: Tin; ComponentLink1Description: Manufacturer; ComponentLink1URL: http://www.we-online.de; ComponentLink2Description: Datasheet; ComponentLink2URL: https://katalog.we-online.de/em/datasheet/9774050151.pdf; Published Date: November 2018; Publisher: Wurth Elektronik; Operating Temperature: -55 to 150 degC; Packaging: Bulk; Material: Steel; Mounting Technology: SMT; Height: 5 mm; Thread: M2.5
footprint 9774050151
pins: 1

## 9774050151R
designator MP?, comment M2.5, height 5mm
SMT Steel Spacer with internal Thread M2.5 WA-SMSI, height 5mm; Part Number: 9774050151R; Tightening Torque: 0.35 Nm; Solder Cream Thickness: 150 um; Surface: Tin; ComponentLink1Description: Manufacturer; ComponentLink1URL: http://www.we-online.de; ComponentLink2Description: Datasheet; ComponentLink2URL: https://katalog.we-online.de/em/datasheet/9774050151R.pdf; Published Date: November 2018; Publisher: Wurth Elektronik; Operating Temperature: -55 to 150 degC; Packaging: Tape and Reel; Material: Steel; Mounting Technology: SMT; Height: 5 mm; Thread: M2.5
footprint 9774050151
pins: 1

## 9774060151
designator MP?, comment M2.5, height 6mm
SMT Steel Spacer with internal Thread M2.5 WA-SMSI, height 6mm; Part Number: 9774060151; Tightening Torque: 0.35 Nm; Solder Cream Thickness: 150 um; Surface: Tin; ComponentLink1Description: Manufacturer; ComponentLink1URL: http://www.we-online.de; ComponentLink2Description: Datasheet; ComponentLink2URL: https://katalog.we-online.de/em/datasheet/9774060151.pdf; Published Date: November 2018; Publisher: Wurth Elektronik; Operating Temperature: -55 to 150 degC; Packaging: Bulk; Material: Steel; Mounting Technology: SMT; Height: 6 mm; Thread: M2.5
footprint 9774060151
pins: 1

## 9774060151R
designator MP?, comment M2.5, height 6mm
SMT Steel Spacer with internal Thread M2.5 WA-SMSI, height 6mm; Part Number: 9774060151R; Tightening Torque: 0.35 Nm; Solder Cream Thickness: 150 um; Surface: Tin; ComponentLink1Description: Manufacturer; ComponentLink1URL: http://www.we-online.de; ComponentLink2Description: Datasheet; ComponentLink2URL: https://katalog.we-online.de/em/datasheet/9774060151R.pdf; Published Date: November 2018; Publisher: Wurth Elektronik; Operating Temperature: -55 to 150 degC; Packaging: Tape and Reel; Material: Steel; Mounting Technology: SMT; Height: 6 mm; Thread: M2.5
footprint 9774060151
pins: 1

## 9774070151
designator MP?, comment M2.5, height 7mm
SMT Steel Spacer with internal Thread M2.5 WA-SMSI, height 7mm; Part Number: 9774070151; Tightening Torque: 0.35 Nm; Solder Cream Thickness: 150 um; Surface: Tin; ComponentLink1Description: Manufacturer; ComponentLink1URL: http://www.we-online.de; ComponentLink2Description: Datasheet; ComponentLink2URL: https://katalog.we-online.de/em/datasheet/9774070151.pdf; Published Date: November 2018; Publisher: Wurth Elektronik; Operating Temperature: -55 to 150 degC; Packaging: Bulk; Material: Steel; Mounting Technology: SMT; Height: 7 mm; Thread: M2.5
footprint 9774070151
pins: 1

## 9774070151R
designator MP?, comment M2.5, height 7mm
SMT Steel Spacer with internal Thread M2.5 WA-SMSI, height 7mm; Part Number: 9774070151R; Tightening Torque: 0.35 Nm; Solder Cream Thickness: 150 um; Surface: Tin; ComponentLink1Description: Manufacturer; ComponentLink1URL: http://www.we-online.de; ComponentLink2Description: Datasheet; ComponentLink2URL: https://katalog.we-online.de/em/datasheet/9774070151R.pdf; Published Date: November 2018; Publisher: Wurth Elektronik; Operating Temperature: -55 to 150 degC; Packaging: Tape and Reel; Material: Steel; Mounting Technology: SMT; Height: 7 mm; Thread: M2.5
footprint 9774070151
pins: 1

## 9774080151
designator MP?, comment M2.5, height 8mm
SMT Steel Spacer with internal Thread M2.5 WA-SMSI, height 8mm; Part Number: 9774080151; Tightening Torque: 0.35 Nm; Solder Cream Thickness: 150 um; Surface: Tin; ComponentLink1Description: Manufacturer; ComponentLink1URL: http://www.we-online.de; ComponentLink2Description: Datasheet; ComponentLink2URL: https://katalog.we-online.de/em/datasheet/9774080151.pdf; Published Date: November 2018; Publisher: Wurth Elektronik; Operating Temperature: -55 to 150 degC; Packaging: Bulk; Material: Steel; Mounting Technology: SMT; Height: 8 mm; Thread: M2.5
footprint 9774080151
pins: 1

## 9774080151R
designator MP?, comment M2.5, height 8mm
SMT Steel Spacer with internal Thread M2.5 WA-SMSI, height 8mm; Part Number: 9774080151R; Tightening Torque: 0.35 Nm; Solder Cream Thickness: 150 um; Surface: Tin; ComponentLink1Description: Manufacturer; ComponentLink1URL: http://www.we-online.de; ComponentLink2Description: Datasheet; ComponentLink2URL: https://katalog.we-online.de/em/datasheet/9774080151R.pdf; Published Date: November 2018; Publisher: Wurth Elektronik; Operating Temperature: -55 to 150 degC; Packaging: Tape and Reel; Material: Steel; Mounting Technology: SMT; Height: 8 mm; Thread: M2.5
footprint 9774080151
pins: 1

## 9774090151
designator MP?, comment M2.5, height 9mm
SMT Steel Spacer with internal Thread M2.5 WA-SMSI, height 9mm; Part Number: 9774090151; Tightening Torque: 0.35 Nm; Solder Cream Thickness: 150 um; Surface: Tin; ComponentLink1Description: Manufacturer; ComponentLink1URL: http://www.we-online.de; ComponentLink2Description: Datasheet; ComponentLink2URL: https://katalog.we-online.de/em/datasheet/9774090151.pdf; Published Date: November 2018; Publisher: Wurth Elektronik; Operating Temperature: -55 to 150 degC; Packaging: Bulk; Material: Steel; Mounting Technology: SMT; Height: 9 mm; Thread: M2.5
footprint 9774090151
pins: 1

## 9774090151R
designator MP?, comment M2.5, height 9mm
SMT Steel Spacer with internal Thread M2.5 WA-SMSI, height 9mm; Part Number: 9774090151R; Tightening Torque: 0.35 Nm; Solder Cream Thickness: 150 um; Surface: Tin; ComponentLink1Description: Manufacturer; ComponentLink1URL: http://www.we-online.de; ComponentLink2Description: Datasheet; ComponentLink2URL: https://katalog.we-online.de/em/datasheet/9774090151R.pdf; Published Date: November 2018; Publisher: Wurth Elektronik; Operating Temperature: -55 to 150 degC; Packaging: Tape and Reel; Material: Steel; Mounting Technology: SMT; Height: 9 mm; Thread: M2.5
footprint 9774090151
pins: 1

## 9774100151
designator MP?, comment M2.5, height 10mm
SMT Steel Spacer with internal Thread M2.5 WA-SMSI, height 10mm; Part Number: 9774100151; Tightening Torque: 0.35 Nm; Solder Cream Thickness: 150 um; Surface: Tin; ComponentLink1Description: Manufacturer; ComponentLink1URL: http://www.we-online.de; ComponentLink2Description: Datasheet; ComponentLink2URL: https://katalog.we-online.de/em/datasheet/9774100151.pdf; Published Date: November 2018; Publisher: Wurth Elektronik; Operating Temperature: -55 to 150 degC; Packaging: Bulk; Material: Steel; Mounting Technology: SMT; Height: 10 mm; Thread: M2.5
footprint 9774100151
pins: 1

## 9774100151R
designator MP?, comment M2.5, height 10mm
SMT Steel Spacer with internal Thread M2.5 WA-SMSI, height 10mm; Part Number: 9774100151R; Tightening Torque: 0.35 Nm; Solder Cream Thickness: 150 um; Surface: Tin; ComponentLink1Description: Manufacturer; ComponentLink1URL: http://www.we-online.de; ComponentLink2Description: Datasheet; ComponentLink2URL: https://katalog.we-online.de/em/datasheet/9774100151R.pdf; Published Date: November 2018; Publisher: Wurth Elektronik; Operating Temperature: -55 to 150 degC; Packaging: Tape and Reel; Material: Steel; Mounting Technology: SMT; Height: 10 mm; Thread: M2.5
footprint 9774100151
pins: 1


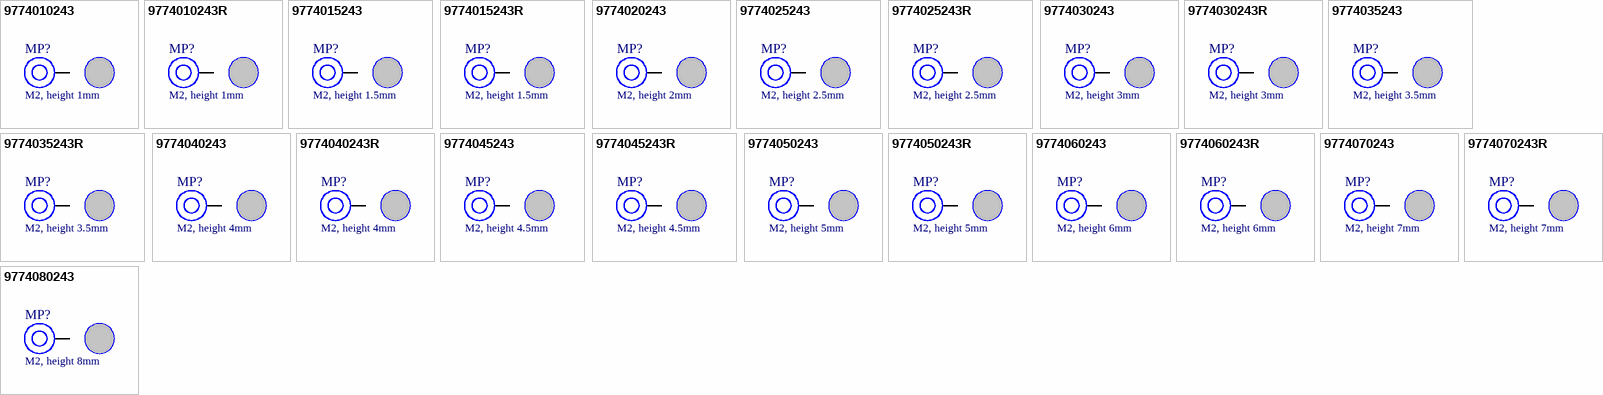
[diagram p3: symbols 9774010243 to 9774080243]

## 9774010243
designator MP?, comment M2, height 1mm
SMT Steel Spacer with internal Thread M2 WA-SMSI, height 1mm; Part Number: 9774010243; Tightening Torque: 0.2 Nm; Solder Cream Thickness: 150 um; Surface: Tin; ComponentLink1Description: Manufacturer; ComponentLink1URL: http://www.we-online.de; ComponentLink2Description: Datasheet; ComponentLink2URL: https://katalog.we-online.de/em/datasheet/9774010243.pdf; Published Date: November 2018; Publisher: Wurth Elektronik; Operating Temperature: -55 to 150 degC; Packaging: Bulk; Material: Steel; Mounting Technology: SMT; Height: 1 mm; Thread: M2
footprint 9774010243
pins: 1

## 9774010243R
designator MP?, comment M2, height 1mm
SMT Steel Spacer with internal Thread M2 WA-SMSI, height 1mm; Part Number: 9774010243R; Tightening Torque: 0.2 Nm; Solder Cream Thickness: 150 um; Surface: Tin; ComponentLink1Description: Manufacturer; ComponentLink1URL: http://www.we-online.de; ComponentLink2Description: Datasheet; ComponentLink2URL: https://katalog.we-online.de/em/datasheet/9774010243R.pdf; Published Date: November 2018; Publisher: Wurth Elektronik; Operating Temperature: -55 to 150 degC; Packaging: Tape and Reel; Material: Steel; Mounting Technology: SMT; Height: 1 mm; Thread: M2
footprint 9774010243
pins: 1